# Altium footprint library divers.PcbLib: 6 footprints
Each footprint in its own frame and in the unit in brackets; x right, y up, seen from the top. Pads: shape width x height; smd on the part's side, far side on the other; paste and mask are expansions set on the pad; w line width, h text height; cw(c..) or ccw(c..) is an arc to the next point about the centre after c.
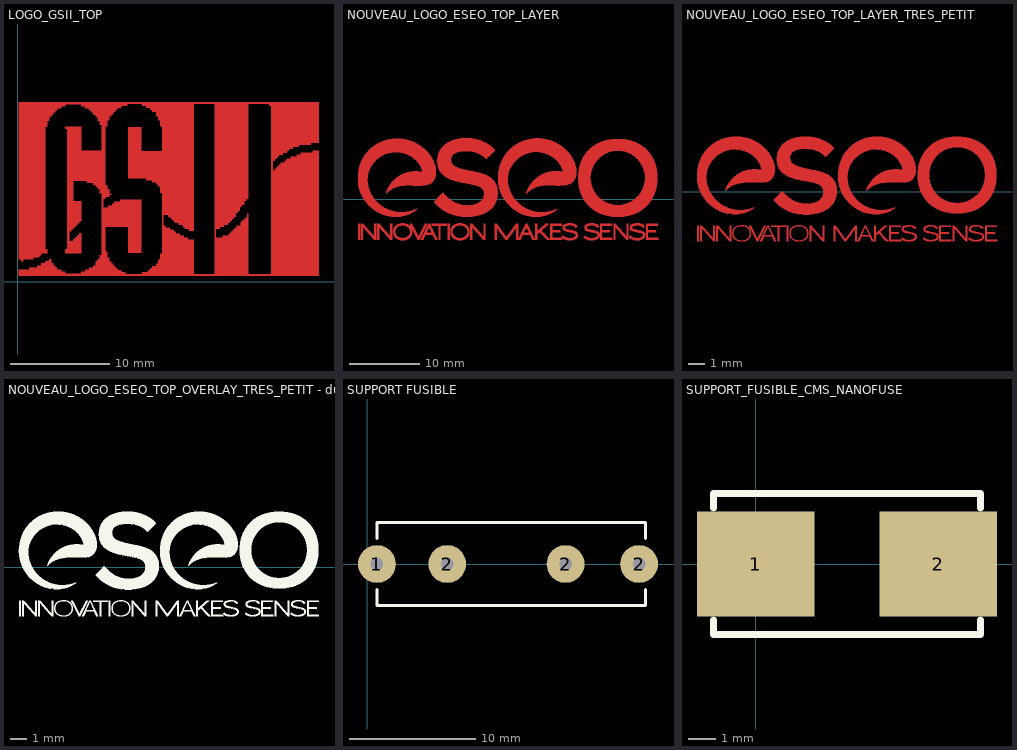
[diagram p0: the footprints below, top view; thin cyan lines are the x and y axes]

## LOGO_GSII_TOP [mm]
Top Layer:
  region: 555 vertices and 3 holes, not listed, extent 0.135,0.643 30.411,18.118

## NOUVEAU_LOGO_ESEO_TOP_LAYER [mm]
Top Layer:
  drawing of 5808 lines, arcs and shapes, not listed

## NOUVEAU_LOGO_ESEO_TOP_LAYER_TRES_PETIT [mm]
Top Layer:
  drawing of 24 lines, arcs and shapes, not listed

## NOUVEAU_LOGO_ESEO_TOP_OVERLAY_TRES_PETIT - duplicate - duplicate [mm]
Top Overlay:
  drawing of 24 lines, arcs and shapes, not listed

## SUPPORT FUSIBLE [mm] "Base Mount Fuseholder; For 5mm/20mm fuses."
height 15
pads (4):
  round 3 hole 1: 1(0.762,0) 2(6.35,0) 2(15.748,0) 2(21.59,0)
Top Overlay:
  lines w0.254: 0.762,-2.032 0.762,-3.302 22.098,-3.302 22.098,-2.032 ; 0.762,2.032 0.762,3.302 22.098,3.302 22.098,2.032
3D body: height 9.59, standoff -3.31, extent 0.508,-3.095 21.786,3.095

## SUPPORT_FUSIBLE_CMS_NANOFUSE [mm] "SMF,Omni blok Fuse blok"
height 3.81
pads (2):
  rect 4.24x3.81 smd: 1(0,0) 2(6.604,0)
Top Overlay:
  lines w0.254: -1.524,-2.032 -1.524,-2.54 8.128,-2.54 8.128,-2.032 ; -1.524,2.032 -1.524,2.54 8.128,2.54 8.128,2.032
3D body: height 3.81, standoff 0, extent -1.613,-2.54 8.217,2.49